# EAGLE library part C322 (library utilities)
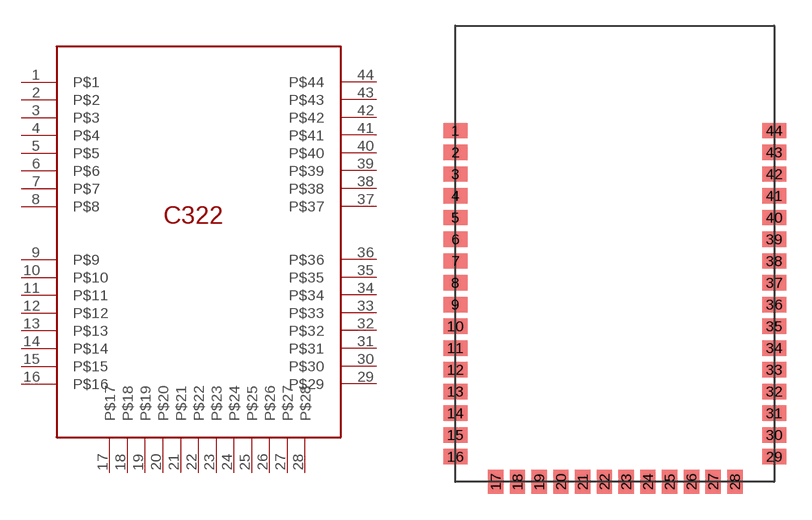
[diagram p0: symbol with the pads of C322; footprint C322]

Designator prefix -

## C322STD  [C322]
1  P$1
2  P$2
3  P$3
4  P$4
5  P$5
6  P$6
7  P$7
8  P$8
9  P$9
10  P$10
11  P$11
12  P$12
13  P$13
14  P$14
15  P$15
16  P$16
17  P$17
18  P$18
19  P$19
20  P$20
21  P$21
22  P$22
23  P$23
24  P$24
25  P$25
26  P$26
27  P$27
28  P$28
29  P$29
30  P$30
31  P$31
32  P$32
33  P$33
34  P$34
35  P$35
36  P$36
37  P$37
38  P$38
39  P$39
40  P$40
41  P$41
42  P$42
43  P$43
44  P$44

## Footprint C322 (pad centres in mm)
smd 1.4 x 0.9: 1 -5.5,7.195; 2 -5.5,5.925; 3 -5.5,4.655; 4 -5.5,3.385; 5 -5.5,2.115; 6 -5.5,0.845; 7 -5.5,-0.425; 8 -5.5,-1.695; 9 -5.5,-2.965; 10 -5.5,-4.235; 11 -5.5,-5.505; 12 -5.5,-6.775; 13 -5.5,-8.045; 14 -5.5,-9.315; 15 -5.5,-10.585; 16 -5.5,-11.855; 29 13.12,-11.855; 30 13.12,-10.585; 31 13.12,-9.315; 32 13.12,-8.045; 33 13.12,-6.775; 34 13.12,-5.505; 35 13.12,-4.235; 36 13.12,-2.965; 37 13.12,-1.695; 38 13.12,-0.425; 39 13.12,0.845; 40 13.12,2.115; 41 13.12,3.385; 42 13.12,4.655; 43 13.12,5.925; 44 13.12,7.195
smd 0.9 x 1.4: 17 -3.15,-13.325; 18 -1.88,-13.325; 19 -0.61,-13.325; 20 0.66,-13.325; 21 1.93,-13.325; 22 3.2,-13.325; 23 4.47,-13.325; 24 5.74,-13.325; 25 7.01,-13.325; 26 8.28,-13.325; 27 9.55,-13.325; 28 10.82,-13.325